# Altium footprint library Components - 02.04.22 - 05.57.PcbLib: 1 footprints
Each footprint in its own frame and in the unit in brackets; x right, y up, seen from the top. Pads: shape width x height; smd on the part's side, far side on the other; paste and mask are expansions set on the pad; w line width, h text height; cw(c..) or ccw(c..) is an arc to the next point about the centre after c.
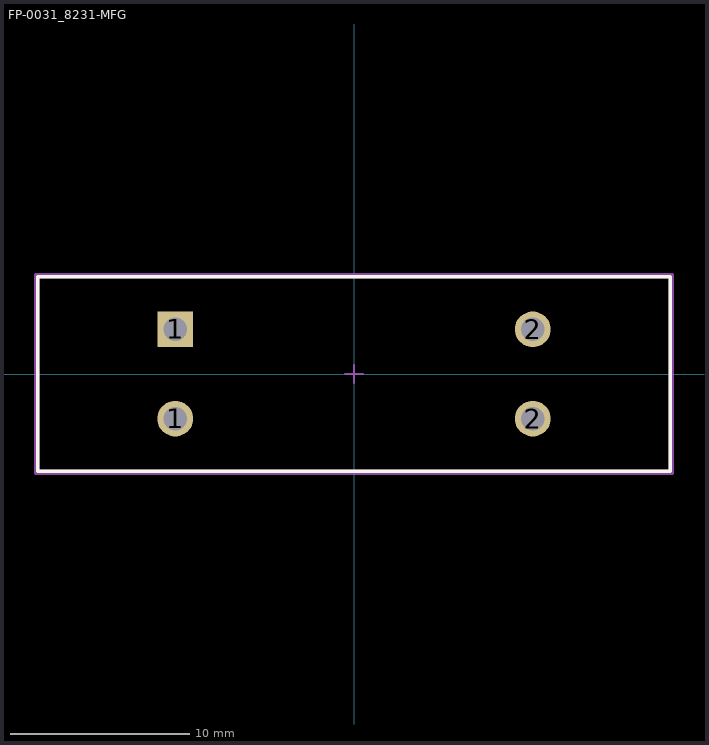
[diagram p0: the footprint, top view; thin cyan lines are the x and y axes]

## FP-0031_8231-MFG [mm]
pads (4):
  round 2 hole 1.3 paste-1000 mask+0: 1(-10,-2.5) 2(10,-2.5) 2(10,2.5)
  rect 2x2 hole 1.3 paste-1000 mask+0: 1(-10,2.5)
Top Overlay:
  lines w0.2: -17.7,-5.45 -17.7,5.45 17.7,5.45 17.7,-5.45 -17.7,-5.45
Top Assembly:
  lines w0.2: -17.8,-5.55 -17.8,5.55 17.8,5.55 17.8,-5.55 -17.8,-5.55
  text ".Designator" at 0,-0.001 h1
Top 3D Body:
  lines w0.2: -17.7,-5.45 -17.7,5.45 17.7,5.45 17.7,-5.45 -17.7,-5.45
Top Courtyard:
  lines w0.2: -17.8,-5.55 -17.8,5.55 17.8,5.55 17.8,-5.55 -17.8,-5.55
Top Component Center:
  lines w0.1: -0.5,0 0.5,0 ; 0,-0.5 0,0.5
3D body "Fuse_Schurter_0031_8231_eec.STEP": height 0.25, standoff 0, extent -17.8,-5.55 17.8,5.55